# EAGLE library part UI39 (library ui39)
Hahn UI 39 Type Trafo
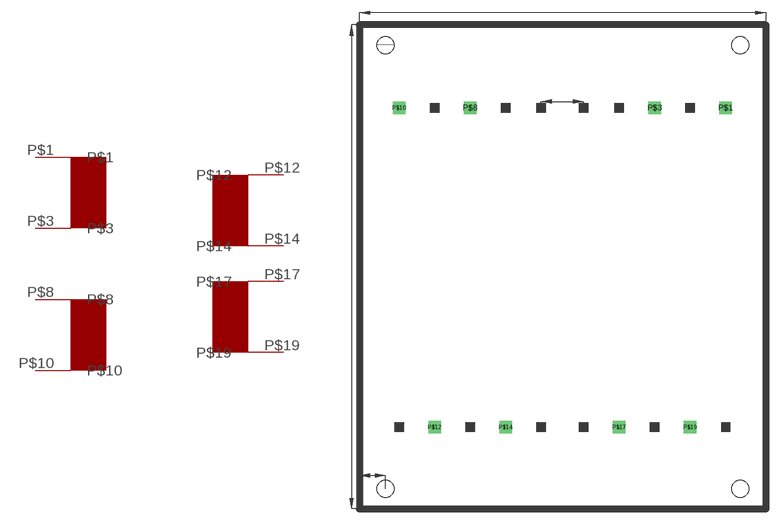
[diagram p0: symbol with the pads of UI39; footprint UI39]

Designator prefix -

## UI39 (OUTPUT: 30VA)  [UI39]
P$1  P$1  pwr
P$3  P$3  pwr
P$8  P$8  pwr
P$10  P$10  pwr
P$12  P$12  pwr
P$14  P$14  pwr
P$17  P$17  pwr
P$19  P$19  pwr

## Footprint UI39 (pad centres in mm)
Hahn UI 39 Trafo
drill 0.8 pad 1.778 square: P$1 51.6,56.5; P$3 41.6,56.5; P$8 15.6,56.5; P$10 5.6,56.5; P$12 10.6,11.5; P$14 20.6,11.5; P$17 36.6,11.5; P$19 46.6,11.5
hole 2.4 at 3.65,2.85
hole 2.4 at 53.65,2.85
hole 2.4 at 53.65,65.35
hole 2.4 at 3.65,65.35